# Altium footprint library PcbLib1.PcbLib: 12 footprints
Each footprint in its own frame and in the unit in brackets; x right, y up, seen from the top. Pads: shape width x height; smd on the part's side, far side on the other; paste and mask are expansions set on the pad; w line width, h text height; cw(c..) or ccw(c..) is an arc to the next point about the centre after c.
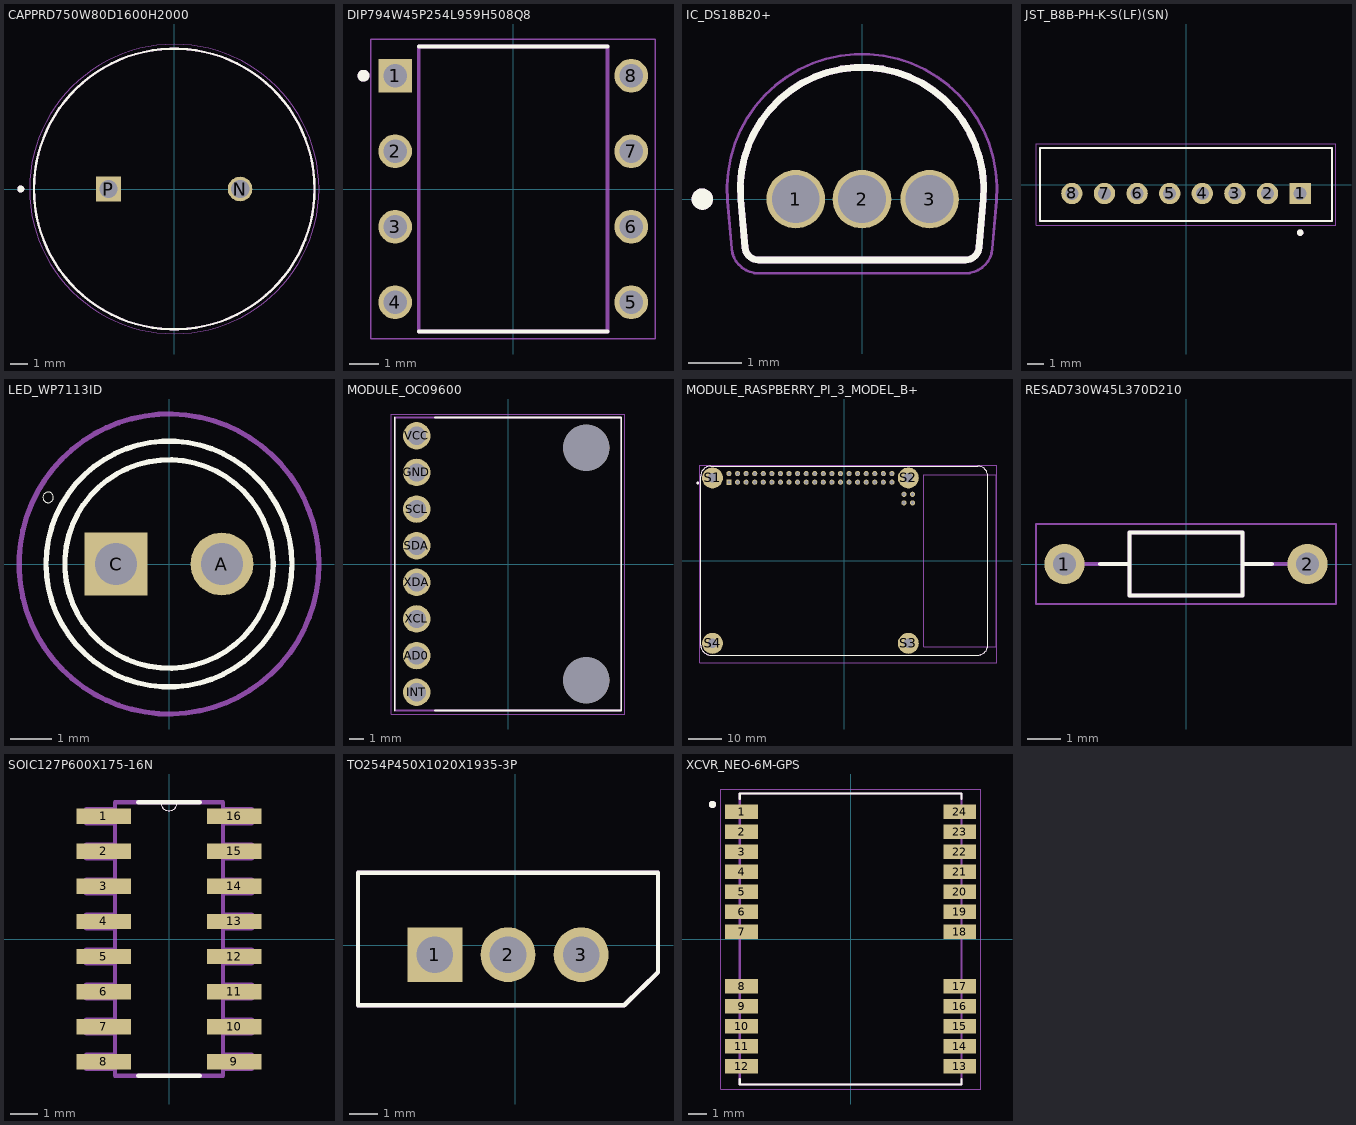
[diagram p0: the footprints below, top view; thin cyan lines are the x and y axes]

## CAPPRD750W80D1600H2000 [mm]
pads (2):
  round 1.4 hole 1.05: N(3.75,0)
  rect 1.4x1.4 hole 1.05: P(-3.75,0)
Top Overlay:
  circle w0.127: c0,0 r8
  circle w0.2: c-8.75,0 r0.1
Mechanical 13:
  circle w0.127: c0,0 r8
  circle w0.2: c-8.75,0 r0.1
Mechanical 15:
  circle w0.05: c0,0 r8.25
3D body "step_temp.STEP": height 20, standoff -17, extent -8,-7.999 8,7.999

## DIP794W45P254L959H508Q8 [mm]
pads (8):
  rect 1.13x1.13 / inner round 1.13 / far side rect 1.13x1.13 hole 0.78 mask+0.102: 1(-3.97,3.81)
  round 1.13 hole 0.78 mask+0.102: 2(-3.97,1.27) 3(-3.97,-1.27) 4(-3.97,-3.81) 5(3.97,-3.81) 6(3.97,-1.27) 7(3.97,1.27) 8(3.97,3.81)
Top Overlay:
  circle w0.2: c-5.035,3.81 r0.1
  lines w0.127: -3.175,-4.795 3.175,-4.795 ; -3.175,4.795 3.175,4.795
Mechanical 13:
  circle w0.2: c-5.035,3.81 r0.1
  lines w0.127: -3.175,-4.795 -3.175,4.795 3.175,4.795 3.175,-4.795 -3.175,-4.795
Mechanical 15:
  lines w0.05: -4.785,-5.045 -4.785,5.045 4.785,5.045 4.785,-5.045 -4.785,-5.045
3D body "step_temp.STEP": height 5.08, standoff -3.18, extent -4.095,-4.795 4.095,4.795

## IC_DS18B20+ [mm]
height 4.95
pads (3):
  round 1.1 hole 0.9: 1(-1.245,0) 2(0,0) 3(1.27,0)
Top Overlay:
  circle w0.2: c-3,0 r0.1
  lines w0.127: -2.277,-0.009 cw(c0,0.19) 2.277,-0.009 ; -2.277,-0.009 cw(c0,0.19) 2.277,-0.009 ; -2.277,-0.009 -2.198,-0.911 ; -2.198,-0.911 ccw(c-1.945,-0.889) -1.945,-1.143 ; -2.198,-0.911 ccw(c-1.945,-0.889) -1.945,-1.143 ; -1.945,-1.143 1.945,-1.143 ; 1.945,-1.143 ccw(c1.945,-0.889) 2.198,-0.911 ; 1.945,-1.143 ccw(c1.945,-0.889) 2.198,-0.911 ; 2.198,-0.911 2.277,-0.009
Mechanical 13:
  circle w0.2: c-3,0 r0.1
  lines w0.127: -2.277,-0.009 cw(c0,0.19) 2.277,-0.009 ; -2.277,-0.009 cw(c0,0.19) 2.277,-0.009 ; -2.277,-0.009 -2.198,-0.911 ; -2.198,-0.911 ccw(c-1.945,-0.889) -1.945,-1.143 ; -2.198,-0.911 ccw(c-1.945,-0.889) -1.945,-1.143 ; -1.945,-1.143 1.945,-1.143 ; 1.945,-1.143 ccw(c1.945,-0.889) 2.198,-0.911 ; 1.945,-1.143 ccw(c1.945,-0.889) 2.198,-0.911 ; 2.198,-0.911 2.277,-0.009
Mechanical 15:
  lines w0.05: -2.526,-0.031 cw(c0,0.19) 2.526,-0.031 2.447,-0.933 cw(c1.945,-0.889) 1.945,-1.393 -1.945,-1.393 cw(c-1.945,-0.889) -2.447,-0.933 -2.526,-0.031
3D body "step_temp.STEP": height 20.45, standoff 0, extent -2.285,-1.143 2.285,2.476

## JST_B8B-PH-K-S(LF)(SN) [mm]
pads (8):
  rect 1.308x1.308 / inner round 1.308 / far side rect 1.308x1.308 hole 0.8: 1(7,-0.55)
  round 1.308 hole 0.8: 2(5,-0.55) 3(3,-0.55) 4(1,-0.55) 5(-1,-0.55) 6(-3,-0.55) 7(-5,-0.55) 8(-7,-0.55)
Top Overlay:
  circle w0.2: c7,-2.95 r0.1
  lines w0.127: -8.95,-2.25 8.95,-2.25 8.95,2.25 -8.95,2.25 -8.95,-2.25
Mechanical 13:
  circle w0.2: c7,-2.95 r0.1
  lines w0.127: -8.95,-2.25 -8.95,2.25 8.95,2.25 8.95,-2.25 -8.95,-2.25
Mechanical 15:
  lines w0.05: -9.2,-2.5 -9.2,2.5 9.2,2.5 9.2,-2.5 -9.2,-2.5
3D body "step_temp.STEP": height 6, standoff -3.4, extent -9.01,-2.25 8.89,2.25

## LED_WP7113ID [mm]
pads (2):
  round 1.508 hole 1: A(1.27,0)
  rect 1.508x1.508 / inner round 1.508 / far side rect 1.508x1.508 hole 1: C(-1.27,0)
Top Overlay:
  circle w0.127: c0,0 r2.95
  circle w0.127: c0,0 r2.5
  circle w0: c-2.9,1.6 r0.127
Mechanical 15:
  circle w0.127: c0,0 r3.6
3D body "step_temp.STEP": height 9.6, standoff -26, extent -2.5,-2.95 2.95,2.95

## MODULE_OC09600 [mm]
height 3
pads (10):
  round 1.905 hole 1.27 mask+0.102: AD0(-6.33,-6.35) GND(-6.33,6.35) INT(-6.33,-8.89) SCL(-6.33,3.81) SDA(-6.33,1.27) VCC(-6.33,8.89) XCL(-6.33,-3.81) XDA(-6.33,-1.27)
  round 3.2 hole 3.2 unplated mask+0: ""(5.43,-8.06) ""(5.43,8.06)
Top Overlay:
  lines w0.127: -7.85,-10.15 -7.85,10.15 ; -5.058,-10.15 7.85,-10.15 7.85,10.15 -5.058,10.15
Mechanical 13:
  lines w0.127: -7.85,-10.15 -7.85,10.15 7.85,10.15 7.85,-10.15 -7.85,-10.15
Mechanical 15:
  lines w0.05: -8.1,-10.4 8.1,-10.4 8.1,10.4 -8.1,10.4 -8.1,-10.4
3D body "step_temp.STEP": height 3, standoff 0, extent -7.85,-10.15 7.85,10.15

## MODULE_RASPBERRY_PI_3_MODEL_B+ [mil]
height 629.92
pads (48):
  rect 60x60 / inner round 60 / far side rect 60x60 hole 40: 1(-1343.7,914.57)
  round 60 hole 40: 2(-1343.7,1014.57) 3(-1243.7,914.57) 4(-1243.7,1014.57) 5(-1143.7,914.57) 6(-1143.7,1014.57) 7(-1043.7,914.57) 8(-1043.7,1014.57) 9(-943.7,914.57) 10(-943.7,1014.57) 11(-843.7,914.57) 12(-843.7,1014.57) 13(-743.7,914.57) 14(-743.7,1014.57) 15(-643.7,914.57) 16(-643.7,1014.57) 17(-543.7,914.57) 18(-543.7,1014.57) 19(-443.7,914.57) 20(-443.7,1014.57) 21(-343.7,914.57) 22(-343.7,1014.57) 23(-243.7,914.57) 24(-243.7,1014.57) 25(-143.7,914.57) 26(-143.7,1014.57) 27(-43.7,914.57) 28(-43.7,1014.57) 29(56.3,914.57) 30(56.3,1014.57) 31(156.3,914.57) 32(156.3,1014.57) 33(256.3,914.57) 34(256.3,1014.57) 35(356.3,914.57) 36(356.3,1014.57) 37(456.3,914.57) 38(456.3,1014.57) 39(556.3,914.57) 40(556.3,1014.57) 41(796.46,673.5) 42(796.46,773.5) 43(696.46,673.5) 44(696.46,773.5)
  round 244.09 hole 108.27: S1(-1535.43,964.57) S2(748.03,964.57) S3(748.03,-964.57) S4(-1535.43,-964.57)
Top Overlay:
  circle w15.75: c-1708.66,905.51 r7.87
  lines w5: -1673.23,-984.25 ccw(c-1555.12,-984.25) -1555.12,-1102.36 1555.12,-1102.36 ccw(c1555.12,-984.25) 1673.23,-984.25 1673.23,984.25 ccw(c1555.12,984.25) 1555.12,1102.36 -1555.12,1102.36 ccw(c-1555.12,984.25) -1673.23,984.25 -1673.23,-984.25
Mechanical 13:
  circle w15.75: c-1708.66,905.51 r7.87
  lines w5: -1673.23,-984.25 ccw(c-1555.12,-984.25) -1555.12,-1102.36 1555.12,-1102.36 ccw(c1555.12,-984.25) 1673.23,-984.25 1673.23,984.25 ccw(c1555.12,984.25) 1555.12,1102.36 -1555.12,1102.36 ccw(c-1555.12,984.25) -1673.23,984.25 -1673.23,-984.25 ; 925.2,-1003.94 925.2,1003.94 1771.65,1003.94 1771.65,-1003.94 925.2,-1003.94
Mechanical 15:
  lines w1.97: -1683.07,-1191.14 1781.5,-1191.14 1781.5,1112.2 -1683.07,1112.2 -1683.07,-1191.14
3D body "step_temp.STEP": height 700.79, standoff -78.74, extent -1673.23,-1181.1 1783.46,1102.36

## RESAD730W45L370D210 [mm]
height 2.1
pads (2):
  round 1.208 hole 0.7 mask+0.102: 1(-3.65,0) 2(3.65,0)
Top Overlay:
  lines w0.127: -2.576,0 -1.7,0 ; 2.576,0 1.7,0 ; -1.7,0 -1.7,0.95 1.7,0.95 1.7,0 ; -1.7,0 -1.7,-0.95 1.7,-0.95 1.7,0
Mechanical 13:
  lines w0.127: -3.1,0 -1.7,0 ; 3.1,0 1.7,0 ; -1.7,0 -1.7,0.95 1.7,0.95 1.7,0 ; -1.7,0 -1.7,-0.95 1.7,-0.95 1.7,0
Mechanical 15:
  lines w0.05: -4.505,-1.2 -4.505,1.2 4.505,1.2 4.505,-1.2 -4.505,-1.2
3D body "step_temp.STEP": height 1.9, standoff -27.52, extent -3.875,-0.95 3.875,0.95

## SOIC127P600X175-16N [mil]
pads (16):
  rect 78x22 smd: 1(-93,175) 2(-93,125) 3(-93,75) 4(-93,25) 5(-93,-25) 6(-93,-75) 7(-93,-125) 8(-93,-175) 9(93,-175) 10(93,-125) 11(93,-75) 12(93,-25) 13(93,25) 14(93,75) 15(93,125) 16(93,175)
Top Overlay:
  lines w0: -12,195 ccw(c0,195) 12,195
  lines w6: -44,-195 44,-195 ; -44,195 -12,195 12,195 44,195
Mechanical 13:
  lines w0: -12,195 ccw(c0,195) 12,195
  lines w6: -118,-185 -118,-165 -77,-165 -77,-185 -118,-185 ; -118,-135 -118,-115 -77,-115 -77,-135 -118,-135 ; -118,-85 -118,-65 -77,-65 -77,-85 -118,-85 ; -118,-35 -118,-15 -77,-15 -77,-35 -118,-35 ; -118,15 -118,35 -77,35 -77,15 -118,15 ; -118,65 -118,85 -77,85 -77,65 -118,65 ; -118,115 -118,135 -77,135 -77,115 -118,115 ; -118,165 -118,185 -77,185 -77,165 -118,165 ; -77,-195 77,-195 77,195 12,195 -12,195 -77,195 -77,-195 ; 77,-185 77,-165 118,-165 118,-185 77,-185 ; 77,-135 77,-115 118,-115 118,-135 77,-135 ; 77,-85 77,-65 118,-65 118,-85 77,-85 ; 77,-35 77,-15 118,-15 118,-35 77,-35 ; 77,15 77,35 118,35 118,15 77,15 ; 77,65 77,85 118,85 118,65 77,65 ; 77,115 77,135 118,135 118,115 77,115 ; 77,165 77,185 118,185 118,165 77,165
3D body "step_temp.STEP": height 68.9, standoff 0, extent -118.11,-194.88 118.11,194.88

## Testpoint [mil]
via 0,0 diameter 50 hole 28

## TO254P450X1020X1935-3P [mil]
pads (3):
  rect 75x75 / inner round 75 / far side rect 75x75 hole 50: 1(-110,-13)
  round 75 hole 50: 2(-10,-13) 3(90,-13)
Top Overlay:
  lines w6: -215,-82 149,-82 195,-37 195,99 -215,99 -215,-82
Mechanical 13:
  lines w6: -215,-82 149,-82 195,-37 195,99 -215,99 -215,-82
3D body "step_temp.STEP": height 774.8, standoff -362.99, extent -210.79,-78.58 190.79,98.58

## XCVR_NEO-6M-GPS [mm]
pads (24):
  rect 1.8x0.8 smd paste-2: 1(-6,7) 2(-6,5.9) 3(-6,4.8) 4(-6,3.7) 5(-6,2.6) 6(-6,1.5) 7(-6,0.4) 8(-6,-2.6) 9(-6,-3.7) 10(-6,-4.8) 11(-6,-5.9) 12(-6,-7) 13(6,-7) 14(6,-5.9) 15(6,-4.8) 16(6,-3.7) 17(6,-2.6) 18(6,0.4) 19(6,1.5) 20(6,2.6) 21(6,3.7) 22(6,4.8) 23(6,5.9) 24(6,7)
Top Overlay:
  circle w0.2: c-7.6,7.4 r0.1
  lines w0.127: -6.1,-7.72 -6.1,-8 6.1,-8 6.1,-7.72 ; -6.1,7.72 -6.1,8 6.1,8 6.1,7.72
Top Paste:
  drawing of 24 lines, arcs and shapes, not listed
Mechanical 13:
  circle w0.2: c-7.6,7.4 r0.1
  lines w0.127: -6.1,-8 -6.1,8 6.1,8 6.1,-8 -6.1,-8
Mechanical 15:
  lines w0.05: -7.15,-8.25 -7.15,8.25 7.15,8.25 7.15,-8.25 -7.15,-8.25
3D body "step_temp.STEP": height 2.6, standoff 0, extent -6.1,-8 6.1,8